# EAGLE library part LINKIT-7688 (library template)
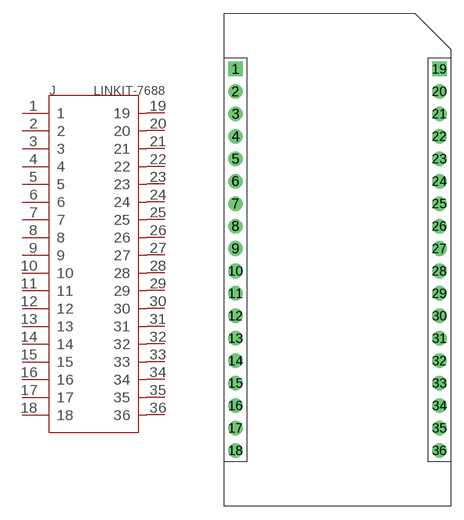
[diagram p1: symbol with the pads of HEADER-2X18P-2.54-65/35MIL; footprint HEADER-2X18P-2.54-65/35MIL]

Designator prefix J

## LINKIT-7688  [HEADER-2X18P-2.54-65/35MIL]
1  1
2  2
3  3
4  4
5  5
6  6
7  7
8  8
9  9
10  10
11  11
12  12
13  13
14  14
15  15
16  16
17  17
18  18
19  19
20  20
21  21
22  22
23  23
24  24
25  25
26  26
27  27
28  28
29  29
30  30
31  31
32  32
33  33
34  34
35  35
36  36

## Footprint HEADER-2X18P-2.54-65/35MIL (pad centres in mm)
drill 0.889 pad 1.651 square: 1 0,21.59; 19 23.05,21.59
drill 0.889 pad 1.651: 2 0,19.05; 3 0,16.51; 4 0,13.97; 5 0,11.43; 6 0,8.89; 7 0,6.35; 8 0,3.81; 9 0,1.27; 10 0,-1.27; 11 0,-3.81; 12 0,-6.35; 13 0,-8.89; 14 0,-11.43; 15 0,-13.97; 16 0,-16.51; 17 0,-19.05; 18 0,-21.59; 20 23.05,19.05; 21 23.05,16.51; 22 23.05,13.97; 23 23.05,11.43; 24 23.05,8.89; 25 23.05,6.35; 26 23.05,3.81; 27 23.05,1.27; 28 23.05,-1.27; 29 23.05,-3.81; 30 23.05,-6.35; 31 23.05,-8.89; 32 23.05,-11.43; 33 23.05,-13.97; 34 23.05,-16.51; 35 23.05,-19.05; 36 23.05,-21.59